# Altium integrated library TCC-BoostEPonteH.IntLib: 9 symbols
Pins are listed as number, name and electrical type; pins without a type are passive.

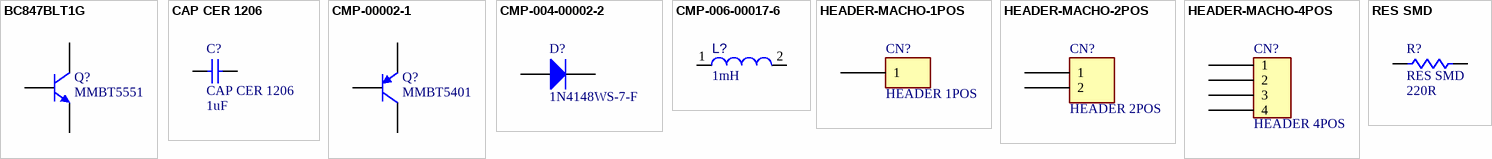
[diagram p0: symbols BC847BLT1G to RES SMD]

## BC847BLT1G
designator Q?, comment MMBT5551
Transistor NPN 45V 0.1A; Part Number: BC847; Endereço Gaveteiro: ***; Item: Transistor NPN 45V 0.1A BC847; ComponentLink1Description: BC847; ComponentLink1URL: digikey.com/en/products/detail/onsemi/BC847BLT1G/918344
footprint SOT-23 / Proto (Adaptado para proto)
pins: 1 B, 2 E, 3 C

## CAP CER 1206
designator C?  Valor: 1uF
CAPACITOR DE CERAMICA 1206 SMD; ComponentLink1Description: New link; ComponentLink1URL: *; Item: CAP CER 1206; Part Number: *; Enderço Gaveteiro: *
footprint CAP CER 1206
pins: 1, 2

## CMP-00002-1
designator Q?, comment MMBT5401
Small Signal Bipolar Transistor, 0.5A I(C), 300V V(BR)CEO, 1-Element, PNP, Silicon; Manufacturer: Diodes Inc.; Manufacturer Part Number: MMBTA92-7-F; Max Collector Current: 500mA; Package Body Material: Plastic; Frequency: 50MHz; Qualification Status: Not Qualified; Additional Feature: HIGH RELIABILITY; DC Current Gain-Min (hFE): 25; Power Dissipation-Max (Abs): 300mW; Transistor Application: SWITCHING; Number of Elements: 1; Time @ Peak Reflow Temperature-Max (s): 40s; Moisture Sensitivity Level: 1; JESD-609 Code: e3; Terminal Form: Gull Wing; Package Shape: Rectangular; JESD-30 Code: R-PDSO-G3; Terminal Finish: Tin; Package Style: SMALL OUTLINEMeter; Reach SVHC Compliant: Yes; Peak Reflow Temperature (Cel): 260°C; Collector-emitter Voltage-Max: 300V; Surface Mount: Yes; Polarity/Channel Type: PNP; Terminal Position: DUAL; Pins: 3; Transistor Element Material: SILICON; RoHS Compliant: Yes; Max Operating Temperature: 150°C; Component Type: Transistors
footprint DIOD-SOT23-3_V (SOT23, 3-Leads, Body 3x1.4mm, Pitch 0.95mm)
pins: 1 B, 2 E, 3 C

## CMP-004-00002-2
designator D?, comment 1N4148WS-7-F
Fast Switching Diode, 75 V, 0.3 A, -65 to 150 degC, 2-Pin SOD323, RoHS, Tape and Reel; Manufacturer: Diodes Inc; Manufacturer: Diodes Inc.; Peak Reverse Current: 1uA; Max Surge Current: 2A; Elements: 1; Forward Current: 300mA; Recovery Time: 4ns; Forward Voltage: 1.25V; Datasheet Version: Rev. 25-2, 03/2016; Case/Package: SOD; Min Operating Temperature: -65°C; RoHS Compliant: True; Max Operating Temperature: 150°C; Manufacturer URL: http://www.diodes.com/; Pins: 2; Package Quantity: 3000; Datasheet URL: http://www.diodes.com/datasheets/ds30097.pdf; Packaging: TapeandReel; Package Description: 2-Pin Small Outline Diode, Body 1.7 x 1.3 mm; Mounting Technology: SM; Package Reference: SOD323-2; Manufacturer Part Number: 1N4148WS-7-F; Component Type: Diodes
footprint DIOD-SOD323-2-A_V (SOD-323, 2-Leads, Body 1.7x1.3mm, Lead Span 2.5mm)
pins: 1 A, 2 K

## CMP-006-00017-6
designator L?, comment value 1mH  (hidden comment: VLCF5028T-2R7N1R8-2)
Inductor for Power Circuits, 2.7 uH, +/- 30%,100 KHz, 1.82 A, -40 to 105 degC, 2-Pin SMD, RoHS, Reel; Manufacturer: TDK; Resistance: 0.033Ohm; Shielding: Shielded; Core Material: Ferrite; Current Rating: 1.82A; Tolerance: 30%; Package Quantity: 500; Datasheet Version: Apr-16; Max Operating Temperature: 105°C; RoHS Compliant: True; Min Operating Temperature: -40°C; Datasheet URL: https://product.tdk.com/info/en/catalog/datasheets/inductor_commercial_power_vlcf5028-2_en.pdf; Packaging: TapeandReel; Package Description: 2-Pin Surface Mount Device, Body 5.2 x 5.3 mm; Mounting Technology: SM; Saturation Current: 1.82A; Inductance Tolerance: 30%; Package Reference: VLCF5028-2; Case/Package: 5028; Manufacturer Part Number: VLCF5028T-2R7N1R8-2; Component Type: Inductors
footprint TDK-VLCF5028-2_V (SMD, 2-Leads, Body 5.2x5.3mm)
pins: 1, 2

## HEADER-MACHO-1POS
designator CN?, comment HEADER 1POS
Conector barra de pinos Furo passante, 1 posições; Part Number: 61300211121; Endereço Gaveteiro: ***; Item: HEADER MACHO 2POS; ComponentLink1Description: HEADER MACHO 2POS; ComponentLink1URL: https://www.digikey.com/en/products/detail/w%C3%BCrth-elektronik/61300211121/4846823
footprint HEADER-MACHO-1POS (Conector header macho 1 vias)
pins: 1

## HEADER-MACHO-2POS
designator CN?, comment HEADER 2POS
Conector barra de pinos Furo passante, 2 posições (2,54mm); Part Number: 61300211121; Endereço Gaveteiro: ***; Item: HEADER MACHO 2POS; ComponentLink1Description: HEADER MACHO 2POS; ComponentLink1URL: https://www.digikey.com/en/products/detail/w%C3%BCrth-elektronik/61300211121/4846823
footprint HEADER-MACHO-2POS (Conector header macho 2 vias)
pins: 1, 2

## HEADER-MACHO-4POS
designator CN?, comment HEADER 4POS
Conector barra de pinos Furo passante, 4 posições (2,54mm); Part Number: 61300411121; Endereço Gaveteiro: ***; Item: HEADER MACHO 4POS; ComponentLink1Description: HEADER MACHO 4POS; ComponentLink1URL: https://www.digikey.com/en/products/detail/w%C3%BCrth-elektronik/61300411121/4846827
footprint HEADER-MACHO-4POS (Conector header macho 4 vias)
pins: 1, 2, 3, 4

## RES SMD
designator R?  Valor: 220R
Part number: *; Endereço gaveteiro: *; Item: RES SMD; ComponentLink1Description: Link; ComponentLink1URL: *
footprint SMD 0603 (*)
footprint SMD 1206 (*)
pins: 1, 2